# EAGLE library part MCP7941*? (library _hhn_MCP7941X)
Microchip MCP79410 / MCP79411 / MCP79412 I²C Real Time CLock/Calendar with Unique ID Rev. 5.0.0 as of 2013-10-23, for EAGLE 5+ Changelog 5.0.0 (initial) MCP79410XI/YY X: Unique ID 0: blank 1: EUI-48 2: EUI-96 I: Temperature Range (Industrial) /YY: Package /MS: MSOP8_.65 (8-Lead Micro Small Outline Package, 0.65mm pitch) /SN: SOIC8 (8-Lead Small Outline [Narrow], 3.9mm body) /ST: TSSOP8 (8-Lead Thin Schrink Small Outline, 4.4mm body) Source: http://www.microchip.com Author: Dipl.-Ing. FH Rainer Bayer Heilbronn University HHN http://www.hs-heilbronn.de/rainer.bayer · rainer.bayer@hs-heilbronn.de Engineering office ing-rb: http://www.ing-rb.de/ · eagle@ing-rb.de Lectureship dozent-rb: http://www.dozent-rb.de/ · eagle@dozent-rb.de
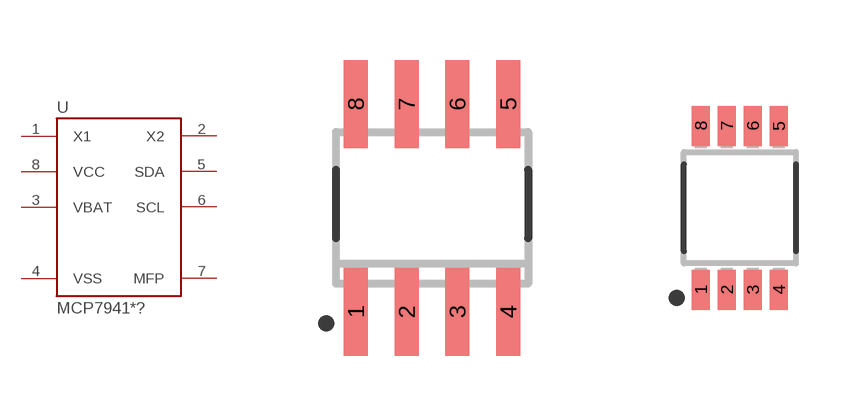
[diagram p0: symbol with the pads of SO8; footprints SO8, MSOP8_065]

Designator prefix U

## MCP79410I/SN, MCP79410X/SN, MCP79411I/SN, MCP79411X/SN, MCP79412I/SN, MCP79412X/SN, MCP7941XX/SN  [SO8]
1  X1  in
2  X2  out
3  VBAT  pwr
4  VSS  pwr
5  SDA  oc
6  SCL  in
7  MFP  oc
8  VCC  pwr

## MCP79410I/MS, MCP79410X/MS, MCP79411I/MS, MCP79411X/MS, MCP79412I/MS, MCP79412X/MS, MCP7941XX/MS  [MSOP8_065]
Pads as for SO8

## MCP79410I/ST, MCP79410X/ST, MCP79411I/ST, MCP79411X/ST, MCP79412I/ST, MCP79412X/ST, MCP7941XX/ST  [TSSOP8_4MM4]
Pads as for SO8

## Footprint SO8 (pad centres in mm)
8-Lead Small Outline IC SOIC8 [narrow, 3.9mm body] (SO-8)
smd 0.6 x 2.2: 1 -1.905,-2.6; 2 -0.635,-2.6; 3 0.635,-2.6; 4 1.905,-2.6; 5 1.905,2.6; 6 0.635,2.6; 7 -0.635,2.6; 8 -1.905,2.6

## Footprint MSOP8_065 (pad centres in mm)
Micro Small Outline Package, MSOP8 (.65mm) Grid .65mm
smd 0.45 x 1: 1 -0.975,-2.05; 2 -0.325,-2.05; 3 0.325,-2.05; 4 0.975,-2.05; 5 0.975,2.05; 6 0.325,2.05; 7 -0.325,2.05; 8 -0.975,2.05

## Footprint TSSOP8_4MM4 (pad centres in mm)
TSSOP 8-lead, 4.4mm body
smd 0.35 x 1.2: 1 -0.975,-2.887; 2 -0.325,-2.887; 3 0.325,-2.887; 4 0.975,-2.887; 5 0.975,2.963; 6 0.325,2.963; 7 -0.325,2.963; 8 -0.975,2.963